# Altium schematic symbol library PIC16F15225+45.SchLib: 1 symbol
Pins are listed as number, name and electrical type; pins without a type are passive.

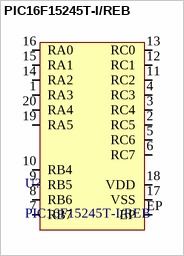
[diagram p0: symbol PIC16F15245T-I/REB]

## PIC16F15245T-I/REB
designator U?
Manufacturer 1: Microchip Technology; Manufacturer Part Number 1: PIC16F15245T-I/REB; Type: PIC16F15245T-I/REB
footprint VQFN-20_0.4_C
pins: 1 RA3, 2 RC5, 3 RC4, 4 RC3, 5 RC6, 6 RC7, 7 RB7, 8 RB6, 9 RB5, 10 RB4, 11 RC2, 12 RC1, 13 RC0, 14 RA2, 15 RA1, 16 RA0, 17 VSS, 18 VDD, 19 RA5, 20 RA4, EP